# Altium schematic symbol library Transistors.SchLib: 12 symbols
Pins are listed as number, name and electrical type; pins without a type are passive.

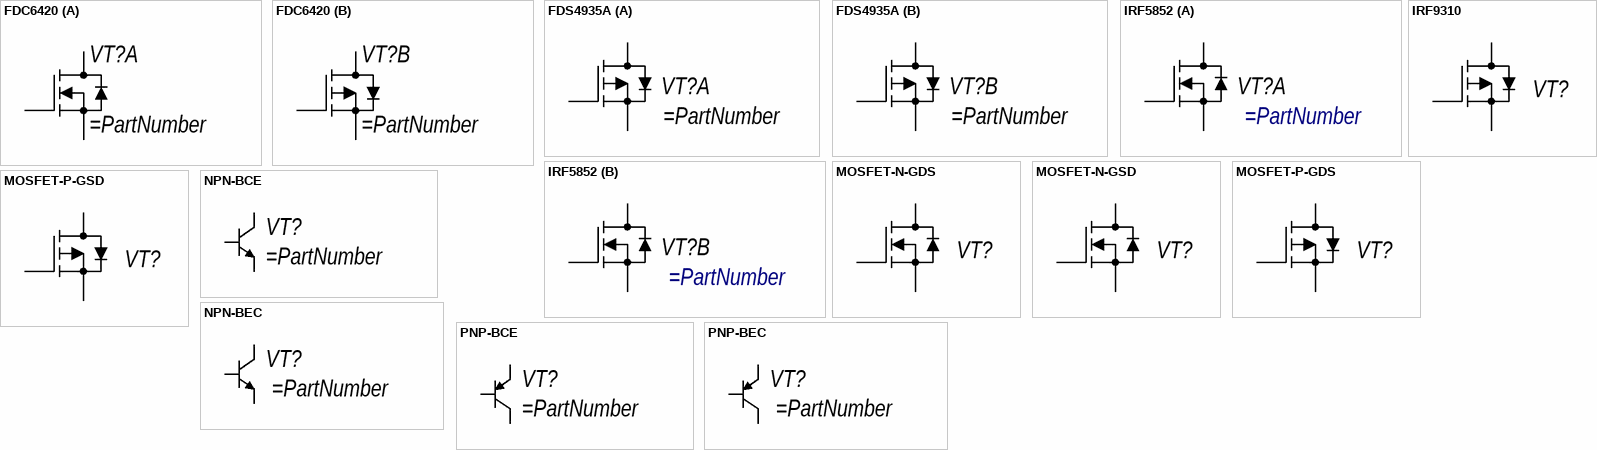
[diagram p0: symbols FDC6420 to PNP-BEC]

## FDC6420
designator VT?
part A pins: 1 GN, 5 SN, 6 DN
part B pins: 2 SP, 3 GP, 4 DP

## FDS4935A
designator VT?
part A pins: 3 S1, 4 G1, 5 D1@5, 6 D1@6
part B pins: 1 S2, 2 G2, 7 D2@7, 8 D2@8

## IRF5852
designator VT?
part A pins: 1 G1, 5 S1, 6 D1
part B pins: 2 S2, 3 G2, 4 D2

## IRF9310
designator VT?
1-2-3S 4G 5-6-7-8D
pins: 1 S, 2 S, 3 S, 4 G, 5 D, 6 D, 7 D, 8 D

## MOSFET-N-GDS
designator VT?
pins: 1 G, 2 D, 3 S

## MOSFET-N-GSD
designator VT?
pins: 1 G, 2 S, 3 D

## MOSFET-P-GDS
designator VT?
pins: 1 G, 2 D, 3 S

## MOSFET-P-GSD
designator VT?
pins: 1 G, 2 S, 3 D

## NPN-BCE
designator VT?
pins: 1 B, 2 C, 3 E

## NPN-BEC
designator VT?
pins: 1 B, 2 E, 3 C

## PNP-BCE
designator VT?
pins: 1 B, 2 C, 3 E

## PNP-BEC
designator VT?
pins: 1 B, 2 E, 3 C